# EAGLE library part ESP32-WROOM-32 (library HelaTronix - MIcroControllers)
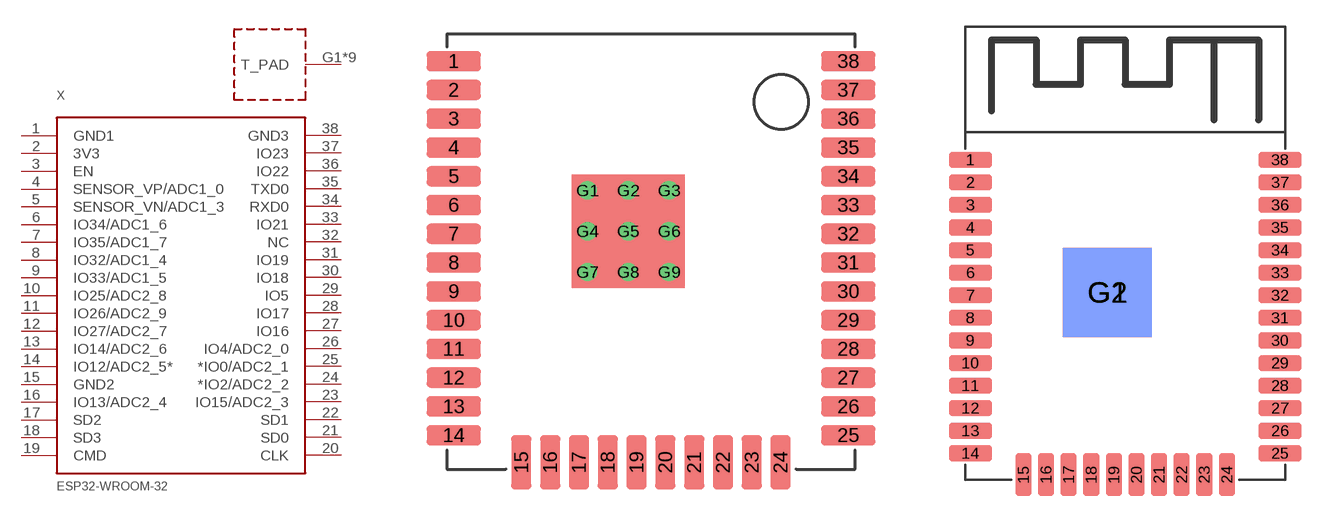
[diagram p3: symbol with the pads of ESP32-WROOM-32U; footprints ESP32-WROOM-32U, ESP32-WROOM-32]

Designator prefix X

## ESP32-WROOM-32U  [ESP32-WROOM-32U]
1  GND1
2  3V3
3  EN
4  SENSOR_VP/ADC1_0
5  SENSOR_VN/ADC1_3
6  IO34/ADC1_6
7  IO35/ADC1_7
8  IO32/ADC1_4
9  IO33/ADC1_5
10  IO25/ADC2_8
11  IO26/ADC2_9
12  IO27/ADC2_7
13  IO14/ADC2_6
14  IO12/ADC2_5*
15  GND2
16  IO13/ADC2_4
17  SD2
18  SD3
19  CMD
20  CLK
21  SD0
22  SD1
23  IO15/ADC2_3
24  *IO2/ADC2_2
25  *IO0/ADC2_1
26  IO4/ADC2_0
27  IO16
28  IO17
29  IO5
30  IO18
31  IO19
32  NC
33  IO21
34  RXD0
35  TXD0
36  IO22
37  IO23
38  GND3
G1  T_PAD
G2  T_PAD
G3  T_PAD
G4  T_PAD
G5  T_PAD
G6  T_PAD
G7  T_PAD
G8  T_PAD
G9  T_PAD

## ESP32-WROOM-32  [ESP32-WROOM-32]
1  GND1
2  3V3
3  EN
4  SENSOR_VP/ADC1_0
5  SENSOR_VN/ADC1_3
6  IO34/ADC1_6
7  IO35/ADC1_7
8  IO32/ADC1_4
9  IO33/ADC1_5
10  IO25/ADC2_8
11  IO26/ADC2_9
12  IO27/ADC2_7
13  IO14/ADC2_6
14  IO12/ADC2_5*
15  GND2
16  IO13/ADC2_4
17  SD2
18  SD3
19  CMD
20  CLK
21  SD0
22  SD1
23  IO15/ADC2_3
24  *IO2/ADC2_2
25  *IO0/ADC2_1
26  IO4/ADC2_0
27  IO16
28  IO17
29  IO5
30  IO18
31  IO19
32  NC
33  IO21
34  RXD0
35  TXD0
36  IO22
37  IO23
38  GND3
G1  T_PAD
G2  T_PAD

## Footprint ESP32-WROOM-32U (pad centres in mm)
smd 2.4 x 0.9: 1 -8.7,8.255; 2 -8.7,6.985; 3 -8.7,5.715; 4 -8.7,4.445; 5 -8.7,3.175; 6 -8.7,1.905; 7 -8.7,0.635; 8 -8.7,-0.635; 9 -8.7,-1.905; 10 -8.7,-3.175; 11 -8.7,-4.445; 12 -8.7,-5.715; 13 -8.7,-6.985; 14 -8.7,-8.255; 25 8.7,-8.255; 26 8.7,-6.985; 27 8.7,-5.715; 28 8.7,-4.445; 29 8.7,-3.175; 30 8.7,-1.905; 31 8.7,-0.635; 32 8.7,0.635; 33 8.7,1.905; 34 8.7,3.175; 35 8.7,4.445; 36 8.7,5.715; 37 8.7,6.985; 38 8.7,8.255
smd 0.9 x 2.4: 15 -5.715,-9.455; 16 -4.445,-9.455; 17 -3.175,-9.455; 18 -1.905,-9.455; 19 -0.635,-9.455; 20 0.635,-9.455; 21 1.905,-9.455; 22 3.175,-9.455; 23 4.445,-9.455; 24 5.715,-9.455
drill 0.3: G1 -2.8,2.55; G2 -1,2.55; G3 0.8,2.55; G4 -2.8,0.75; G5 -1,0.75; G6 0.8,0.75; G7 -2.8,-1.05; G8 -1,-1.05; G9 0.8,-1.05

## Footprint ESP32-WROOM-32 (pad centres in mm)
smd 2.4 x 0.9: 1 -8.7,8.255; 2 -8.7,6.985; 3 -8.7,5.715; 4 -8.7,4.445; 5 -8.7,3.175; 6 -8.7,1.905; 7 -8.7,0.635; 8 -8.7,-0.635; 9 -8.7,-1.905; 10 -8.7,-3.175; 11 -8.7,-4.445; 12 -8.7,-5.715; 13 -8.7,-6.985; 14 -8.7,-8.255; 25 8.7,-8.255; 26 8.7,-6.985; 27 8.7,-5.715; 28 8.7,-4.445; 29 8.7,-3.175; 30 8.7,-1.905; 31 8.7,-0.635; 32 8.7,0.635; 33 8.7,1.905; 34 8.7,3.175; 35 8.7,4.445; 36 8.7,5.715; 37 8.7,6.985; 38 8.7,8.255
smd 0.9 x 2.4: 15 -5.715,-9.455; 16 -4.445,-9.455; 17 -3.175,-9.455; 18 -1.905,-9.455; 19 -0.635,-9.455; 20 0.635,-9.455; 21 1.905,-9.455; 22 3.175,-9.455; 23 4.445,-9.455; 24 5.715,-9.455
smd 5 x 5 bottom: G1 -1,0.8
smd 5 x 5: G2 -1,0.8